# EAGLE library part LM2917 (library rnie04)
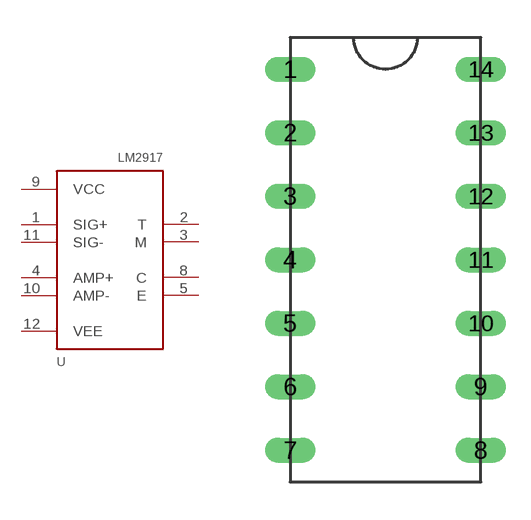
[diagram p2: symbol with the pads of DIL14; footprint DIL14]

Designator prefix -

## LM2917  [DIL14]
1  SIG+  pwr
2  T  pwr
3  M  pwr
4  AMP+  pwr
5  E  pwr
8  C  pwr
9  VCC  pwr
10  AMP-  pwr
11  SIG-  pwr
12  VEE  pwr

## Footprint DIL14 (pad centres in mm)
drill 0.5 long: 1 -3.81,7.62; 2 -3.81,5.08; 3 -3.81,2.54; 4 -3.81,0; 5 -3.81,-2.54; 6 -3.81,-5.08; 7 -3.81,-7.62; 8 3.81,-7.62; 9 3.81,-5.08; 10 3.81,-2.54; 11 3.81,0; 12 3.81,2.54; 13 3.81,5.08; 14 3.81,7.62